# EAGLE library part PSCREWB (library TelemetryCustomV2)
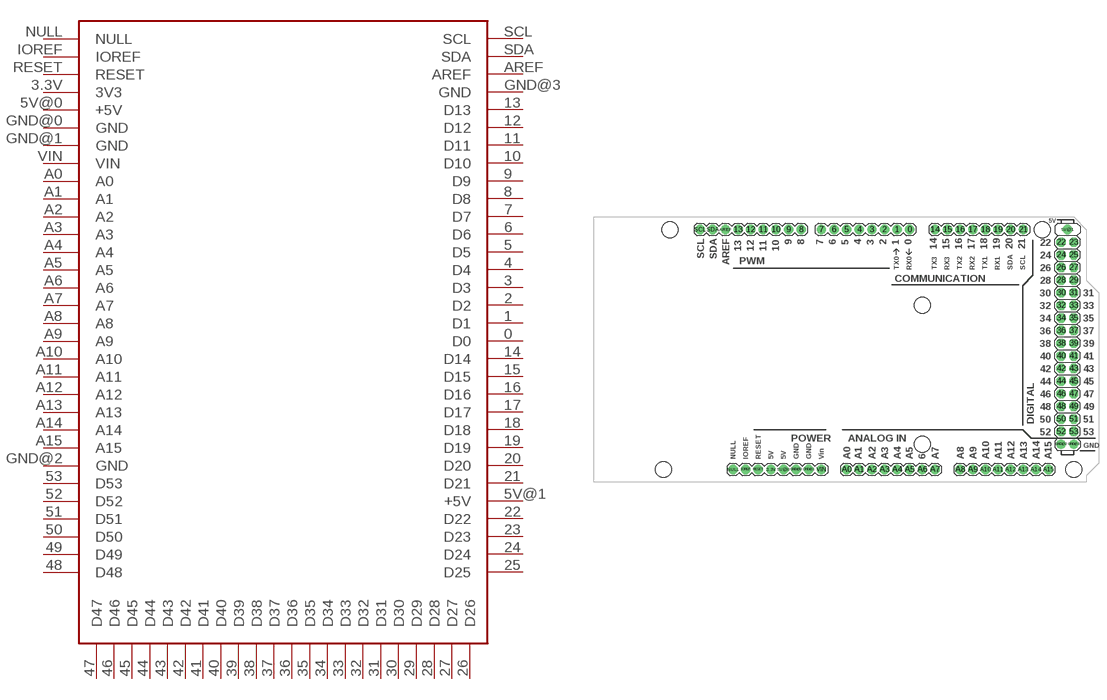
[diagram p1: symbol with the pads of ARDUINO_MEGA; footprint ARDUINO_MEGA]

Designator prefix -

## PSCREWBPROTOSCREWSHIELD  [ARDUINO_MEGA]
0  D0
1  D1
2  D2
3  D3
3.3V  3V3
4  D4
5  D5
5V@0  +5V
5V@1  +5V
6  D6
7  D7
8  D8
9  D9
10  D10
11  D11
12  D12
13  D13
14  D14
15  D15
16  D16
17  D17
18  D18
19  D19
20  D20
21  D21
22  D22
23  D23
24  D24
25  D25
26  D26
27  D27
28  D28
29  D29
30  D30
31  D31
32  D32
33  D33
34  D34
35  D35
36  D36
37  D37
38  D38
39  D39
40  D40
41  D41
42  D42
43  D43
44  D44
45  D45
46  D46
47  D47
48  D48
49  D49
50  D50
51  D51
52  D52
53  D53
A0  A0
A1  A1
A2  A2
A3  A3
A4  A4
A5  A5
A6  A6
A7  A7
A8  A8
A9  A9
A10  A10
A11  A11
A12  A12
A13  A13
A14  A14
A15  A15
AREF  AREF
GND@0  GND
GND@1  GND
GND@2  GND
GND@3  GND
IOREF  IOREF
NULL  NULL
RESET  RESET
SCL  SCL
SDA  SDA
VIN  VIN

## Footprint ARDUINO_MEGA (pad centres in mm)
Arduino MEGA R3 footprint Specifications: Pin count:82 Area:4x2.15 in Example device(s): Arduino Mega R3
drill 1.016 pad 1.88: 0 13.97,24.13; 1 11.43,24.13; 2 8.89,24.13; 3 6.35,24.13; 3.3V -13.97,-24.13; 4 3.81,24.13; 5 1.27,24.13; 5V@0 -11.43,-24.13; 5V@1 45.72,24.13; 6 -1.27,24.13; 7 -3.81,24.13; 8 -7.874,24.13; 9 -10.414,24.13; 10 -12.954,24.13; 11 -15.494,24.13; 12 -18.034,24.13; 13 -20.574,24.13; 14 19.05,24.13; 15 21.59,24.13; 16 24.13,24.13; 17 26.67,24.13; 18 29.21,24.13; 19 31.75,24.13; 20 34.29,24.13; 21 36.83,24.13; A0 1.27,-24.13; A1 3.81,-24.13; A2 6.35,-24.13; A3 8.89,-24.13; A4 11.43,-24.13; A5 13.97,-24.13; A6 16.51,-24.13; A7 19.05,-24.13; A8 24.13,-24.13; A9 26.67,-24.13; A10 29.21,-24.13; A11 31.75,-24.13; A12 34.29,-24.13; A13 36.83,-24.13; A14 39.37,-24.13; A15 41.91,-24.13; AREF -23.114,24.13; GND@0 -8.89,-24.13; GND@1 -6.35,-24.13; GND@2 44.45,-19.05; GND@3 46.99,-19.05; IOREF -19.05,-24.13; NULL -21.59,-24.13; RESET -16.51,-24.13; SCL -28.194,24.13; SDA -25.654,24.13; VIN -3.81,-24.13
drill 1.016 pad 1.88 octagon: 22 44.45,21.59; 23 46.99,21.59; 24 44.45,19.05; 25 46.99,19.05; 26 44.45,16.51; 27 46.99,16.51; 28 44.45,13.97; 29 46.99,13.97; 30 44.45,11.43; 31 46.99,11.43; 32 44.45,8.89; 33 46.99,8.89; 34 44.45,6.35; 35 46.99,6.35; 36 44.45,3.81; 37 46.99,3.81; 38 44.45,1.27; 39 46.99,1.27; 40 44.45,-1.27; 41 46.99,-1.27; 42 44.45,-3.81; 43 46.99,-3.81; 44 44.45,-6.35; 45 46.99,-6.35; 46 44.45,-8.89; 47 46.99,-8.89; 48 44.45,-11.43; 49 46.99,-11.43; 50 44.45,-13.97; 51 46.99,-13.97; 52 44.45,-16.51; 53 46.99,-16.51
hole 3.2 at -34.29,24.13
hole 3.2 at -35.56,-24.13
hole 3.2 at 16.51,8.89
hole 3.2 at 16.51,-19.05
hole 3.2 at 40.64,24.13
hole 3.2 at 46.99,-24.13